# EAGLE library part MAX9702 (library m-pad)
Maxim's MAX9702 1.8W, Filterless, Stereo, Class D Audio Power Amplifier and DirectDrive Stereo Headphone Amplifier Description: The MAX9702 combines a highly efficient Class D speaker amplifier with a high-linearity Class AB headphone amplifier. This ensures maximum battery life in speaker mode and maximum performance in headphone mode. The MAX9702 delivers up to 1.1W per channel into an 8Ohm load and 1.8W into a 4Ohm load from a 5V power supply. Maxim's 2nd-generation, spreadspectrum modulation scheme renders the traditional Class D output filter unnecessary. The MAX9702 speaker amplifier offers two modulation schemes: a fixed-frequency (FFM) mode and a spreadspectrum (SSM) mode that reduces EMI-radiated emissions. The MAX9702 speaker amplifier features a fully differential architecture, full-bridged (BTL) output, and comprehensive click-and-pop suppression. The MAX9702 speaker amplifier features high 75dB PSRR, low 0.07% THD+N, and SNR in excess of 97dB. Shortcircuit and thermal-overload protection prevent the device from being damaged during a fault condition. The headphone amplifier uses Maxim?s patented DirectDriveTM architecture that produces a ground-referenced output from a single supply, eliminating the need for large DC-blocking capacitors, saving cost, board space, and component height. A high 80dB PSRR and low 0.02% THD+N ensures clean, low-distortion amplification of the audio signal. An I2C interface sets the speaker and headphone gain, mono, stereo, and mute functions. The MAX9702 is available in a 28-pin thin QFN-EP (5mm x 5mm x 0.8mm) package. The MAX9702 is specified over the extended -40°C to +85°C temperature range. Features: Patented Spread-Spectrum Modulation Reduces EMI Emissions Programmable Mono, Stereo, Mute, and Mix Functions 1.1W Stereo Output (8Ohm, VDD = 5V) 48mW Headphone Output (32Ohm, VDD = 3.3V) 1.8W Stereo Output (4Ohm, VDD = 5V) 94% Efficiency (RL = 8Ohm, PO = 1.1W) High 73dB PSRR (f = 217Hz) I2C Programmable Gain Up to +21dB Integrated Click-and-Pop Suppression Low-Power Shutdown Mode (0.1µA) Short-Circuit and Thermal-Overload Protection ±8kV (HBM) ESD-Protected Headphone Driver Outputs Applications: Cellular Phones Notebook PCs PDAs Handheld Gaming Consoles Please send any comments to: messi@users.sourceforge.net
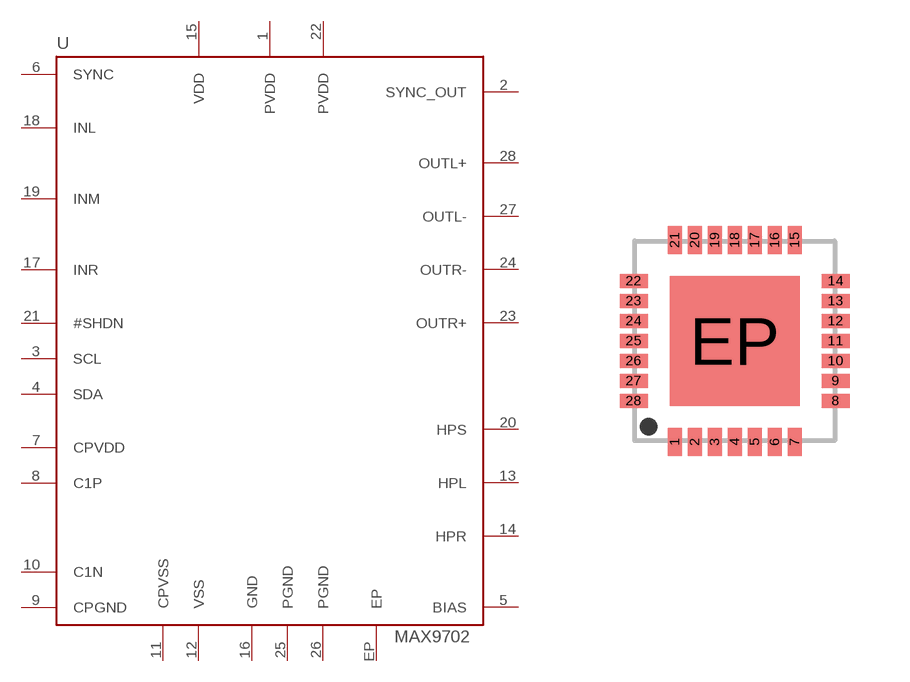
[diagram p141: symbol with the pads of TQFN28; footprint TQFN28]

Designator prefix U

## MAX9702  [TQFN28]
1  PVDD  pwr
2  SYNC_OUT  out
3  SCL  in
4  SDA
5  BIAS  in
6  SYNC  in
7  CPVDD  pwr
8  C1P  in
9  CPGND  pwr
10  C1N  in
11  CPVSS  pwr
12  VSS  pwr
13  HPL  out
14  HPR  out
15  VDD  pwr
16  GND  pwr
17  INR  in
18  INL  in
19  INM  in
20  HPS  in
21  #SHDN  in
22  PVDD  pwr
23  OUTR+  out
24  OUTR-  out
25  PGND  pwr
26  PGND  pwr
27  OUTL-  out
28  OUTL+  out
EP  EP  pas

## Footprint TQFN28 (pad centres in mm)
Maxim's TQFN28 e.g. MAX9702
smd 0.35 x 0.7: 1 -1.5,-2.525; 2 -1,-2.525; 3 -0.5,-2.525; 4 0,-2.525; 5 0.5,-2.525; 6 1,-2.525; 7 1.5,-2.525; 15 1.5,2.525; 16 1,2.525; 17 0.5,2.525; 18 0,2.525; 19 -0.5,2.525; 20 -1,2.525; 21 -1.5,2.525
smd 0.7 x 0.35: 8 2.525,-1.5; 9 2.525,-1; 10 2.525,-0.5; 11 2.525,0; 12 2.525,0.5; 13 2.525,1; 14 2.525,1.5; 22 -2.525,1.5; 23 -2.525,1; 24 -2.525,0.5; 25 -2.525,0; 26 -2.525,-0.5; 27 -2.525,-1; 28 -2.525,-1.5
smd 3.25 x 3.25: EP 0,0